# EAGLE library part SWD-10 (library mbed-HDK)
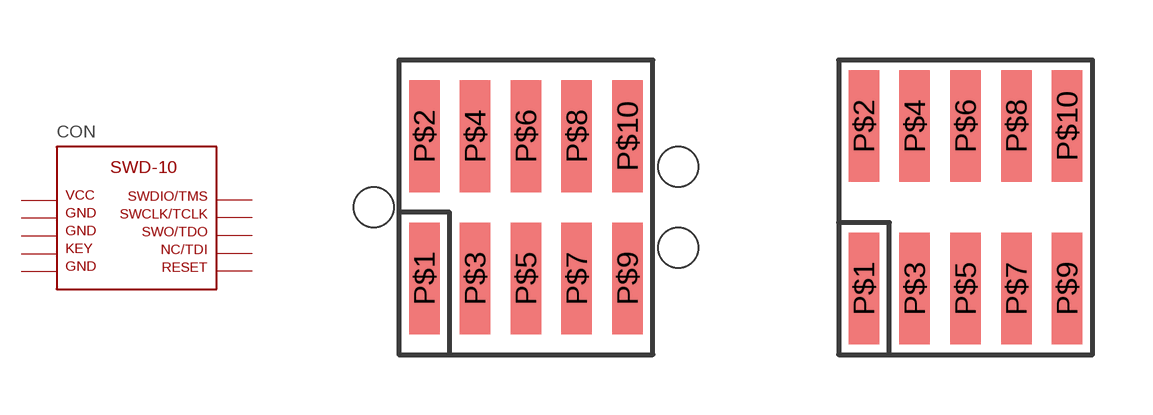
[diagram p0: symbol with the pads of SWD-10-TAGCONNECT; footprints SWD-10-TAGCONNECT, SWD-10-SMD]

Designator prefix CON

## SWD-10_TC  [SWD-10-TAGCONNECT]
P$1  P$1
P$2  P$2
P$3  P$3
P$4  P$4
P$5  P$5
P$6  P$6
P$7  P$7
P$8  P$8
P$9  P$9
P$10  P$10

## SWD-10_SMD  [SWD-10-SMD]
Pads as for SWD-10-TAGCONNECT

## SWD-10_PTH  [SWD-10-PTH]
1  P$1
2  P$2
3  P$3
4  P$4
5  P$5
6  P$6
7  P$7
8  P$8
9  P$9
10  P$10

## Footprint SWD-10-TAGCONNECT (pad centres in mm)
smd 0.762 x 2.794: P$1 0.381,-1.778; P$2 0.381,1.778; P$3 1.651,-1.778; P$4 1.651,1.778; P$5 2.921,-1.778; P$6 2.921,1.778; P$7 4.191,-1.778; P$8 4.191,1.778; P$9 5.461,-1.778; P$10 5.461,1.778
hole 1 at -0.889,0
hole 1 at 6.731,1.016
hole 1 at 6.731,-1.016

## Footprint SWD-10-SMD (pad centres in mm)
smd 0.762 x 2.794: P$1 0.381,-2.032; P$2 0.381,2.032; P$3 1.651,-2.032; P$4 1.651,2.032; P$5 2.921,-2.032; P$6 2.921,2.032; P$7 4.191,-2.032; P$8 4.191,2.032; P$9 5.461,-2.032; P$10 5.461,2.032

## Footprint SWD-10-PTH (pad centres in mm)
drill 0.61 pad 0.9: 1 0,0; 2 1.27,0; 3 0,-1.27; 4 1.27,-1.27; 5 0,-2.54; 6 1.27,-2.54; 7 0,-3.81; 8 1.27,-3.81; 9 0,-5.08; 10 1.27,-5.08